# EAGLE library part TPS63030DSKT (library tps6303030)
HIGH EFFICIENCY SINGLE INDUCTOR BUCK-BOOST CONVERTER WITH 1-A SWITCHES
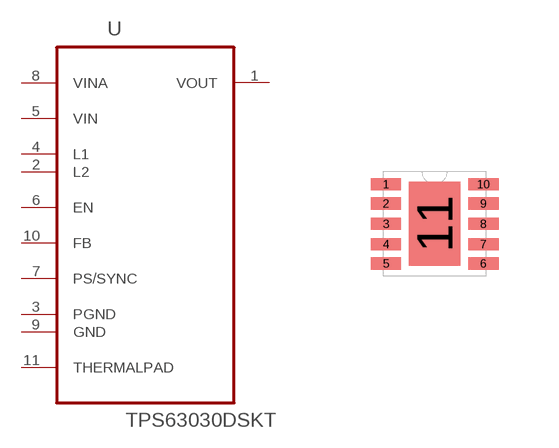
[diagram p0: symbol with the pads of SON50P260X260X80-11N; footprint SON50P260X260X80-11N]

Designator prefix U

## TPS63030DSKT (MPN: TPS63030DSKT; OC_FARNELL: 1686303; OC_NEWARK: 19P7478; PACKAGE: SON-10; SUPPLIER: Texas Instruments)  [SON50P260X260X80-11N]
1  VOUT  pwr
2  L2  in
3  PGND  pwr
4  L1  in
5  VIN  in
6  EN  in
7  PS/SYNC  in
8  VINA  in
9  GND  pwr
10  FB  in
11  THERMALPAD  pas

## Footprint SON50P260X260X80-11N (pad centres in mm)
smd 0.762 x 0.305: 1 -1.219,0.991; 2 -1.219,0.508; 3 -1.219,0; 4 -1.219,-0.508; 5 -1.219,-0.991; 6 1.219,-0.991; 7 1.219,-0.508; 8 1.219,0; 9 1.219,0.508; 10 1.219,0.991
smd 1.295 x 2.108: 11 0,0